# Altium schematic symbol library aoz1280ci.SchLib: 1 symbol
Pins are listed as number, name and electrical type; pins without a type are passive.

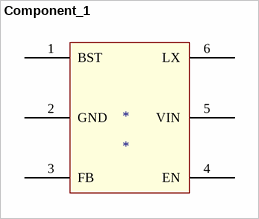
[diagram p0: symbol Component_1]

## Component_1
designator *
pins: 1 BST, 2 GND, 3 FB, 4 EN, 5 VIN, 6 LX